# EAGLE library part WAVESHARE_RP_2040_ZERO (library FunModules)
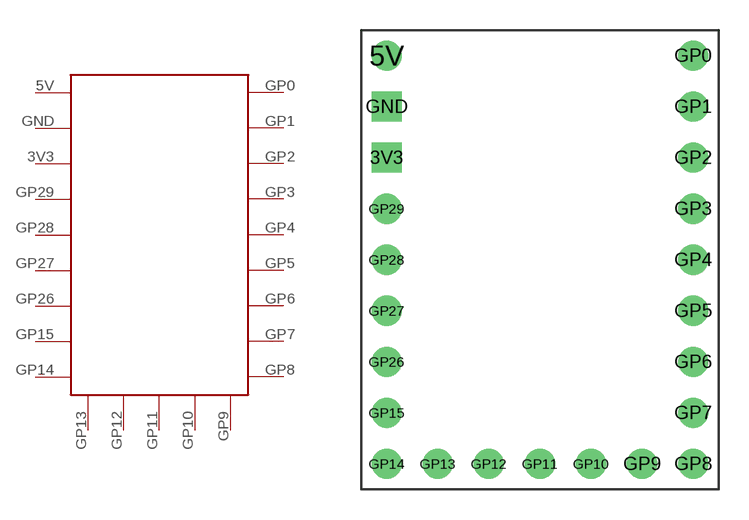
[diagram p0: symbol with the pads of WAVESHARE_RP_2040_ZERO; footprint WAVESHARE_RP_2040_ZERO]

Designator prefix -

## WAVESHARE_RP_2040_ZERO  [WAVESHARE_RP_2040_ZERO]
3V3  3V3
5V  5V
GND  GND
GP0  GP0
GP1  GP1
GP2  GP2
GP3  GP3
GP4  GP4
GP5  GP5
GP6  GP6
GP7  GP7
GP8  GP8
GP9  GP9
GP10  GP10
GP11  GP11
GP12  GP12
GP13  GP13
GP14  GP14
GP15  GP15
GP26  GP26
GP27  GP27
GP28  GP28
GP29  GP29

## Footprint WAVESHARE_RP_2040_ZERO (pad centres in mm)
drill 0.95 pad 1.5 square: 3V3 -19.05,2.54; GND -19.05,5.08
drill 0.95 pad 1.5: 5V -19.05,7.62; GP0 -3.81,7.62; GP1 -3.81,5.08; GP2 -3.81,2.54; GP3 -3.81,0; GP4 -3.81,-2.54; GP5 -3.81,-5.08; GP6 -3.81,-7.62; GP7 -3.81,-10.16; GP8 -3.81,-12.7; GP9 -6.35,-12.7; GP10 -8.89,-12.7; GP11 -11.43,-12.7; GP12 -13.97,-12.7; GP13 -16.51,-12.7; GP14 -19.05,-12.7; GP15 -19.05,-10.16; GP26 -19.05,-7.62; GP27 -19.05,-5.08; GP28 -19.05,-2.54; GP29 -19.05,0